# EAGLE library part 74LVC2G17GV (library LunchBox48_ASIC_board)
NXP 74LVC2G17GV Dual Schmitt trigger buffer
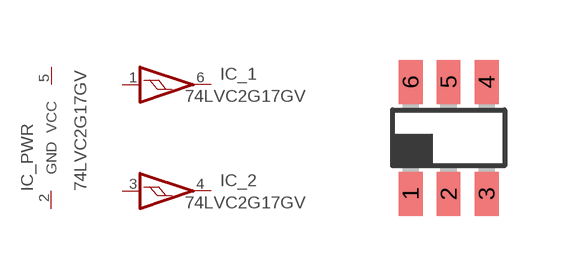
[diagram p8: symbol with the pads of SOT23-6; footprint SOT23-6]

Designator prefix IC; gates _PWR=PWRPINS _1=SCHMITT_TRG _2=SCHMITT_TRG

## 74LVC2G17GV  [SOT23-6]
1  _1:I  in
2  _PWR:GND  pwr
3  _2:I  in
4  _2:O  out
5  _PWR:VCC  pwr
6  _1:O  out

## Footprint SOT23-6 (pad centres in mm)
smd 0.6 x 1.1: 1 -0.95,-1.4; 2 0,-1.4; 3 0.95,-1.4; 4 0.95,1.4; 5 0,1.4; 6 -0.95,1.4